# Altium footprint library GRM188R61E106MA73D.PcbLib: 1 footprints
Each footprint in its own frame and in the unit in brackets; x right, y up, seen from the top. Pads: shape width x height; smd on the part's side, far side on the other; paste and mask are expansions set on the pad; w line width, h text height; cw(c..) or ccw(c..) is an arc to the next point about the centre after c.
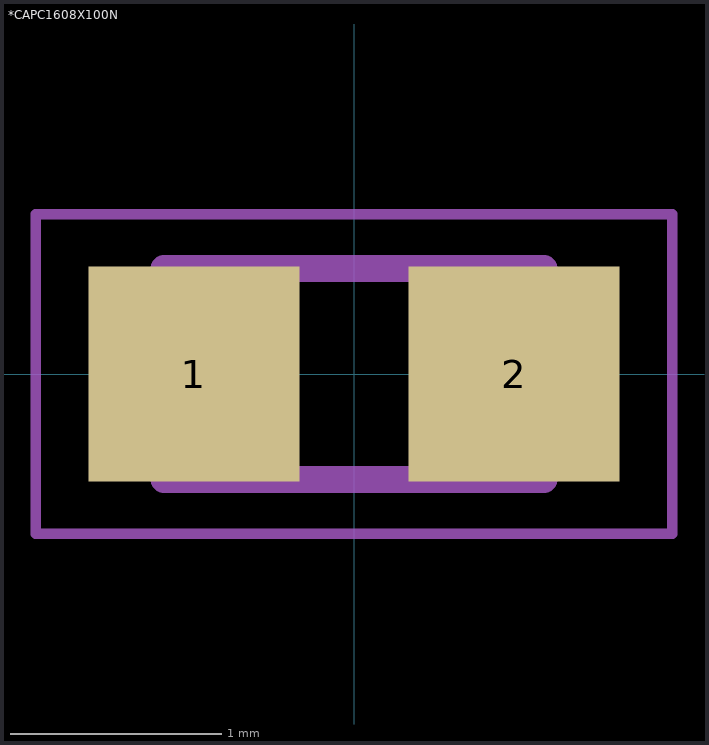
[diagram p0: the footprint, top view; thin cyan lines are the x and y axes]

## *CAPC1608X100N [mm]
pads (2):
  rect 1x1.02 smd: 1(-0.759,0) 2(0.759,0)
Mechanical 4:
  lines w0.127: -0.9,-0.5 -0.9,0.5 ; -0.9,-0.5 0.9,-0.5 ; -0.9,-0.5 -0.9,0.5 ; -0.9,-0.5 0.9,-0.5 ; -0.9,0.5 0.9,0.5 ; -0.9,0.5 0.9,0.5 ; 0.9,-0.5 0.9,0.5 ; 0.9,-0.5 0.9,0.5
Courtyard Bottom:
  lines w0.05: -1.508,-0.758 -1.508,0.758 1.508,0.758 1.508,-0.758 -1.508,-0.758
3D body: height 1, standoff 0, extent -0.8,-0.4 0.8,0.4